# EAGLE library part MA16-1 (library STEMTera)
MA16-1 Gull Wing - MPH100IMP40M-G-V-SM
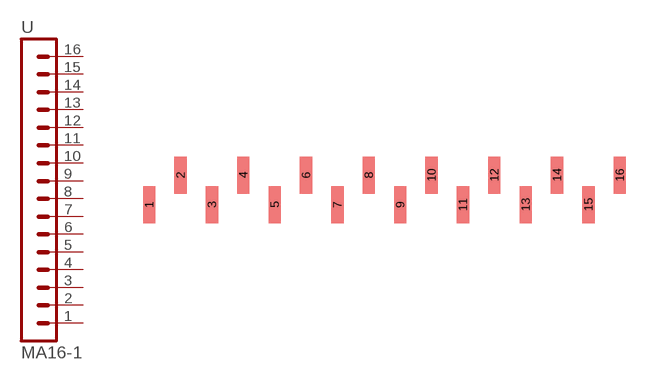
[diagram p15: symbol with the pads of MA16-GULLWING; footprint MA16-GULLWING]

Designator prefix -

## MA16-1  [MA16-GULLWING]
1  1  pas
2  2  pas
3  3  pas
4  4  pas
5  5  pas
6  6  pas
7  7  pas
8  8  pas
9  9  pas
10  10  pas
11  11  pas
12  12  pas
13  13  pas
14  14  pas
15  15  pas
16  16  pas

## Footprint MA16-GULLWING (pad centres in mm)
MPH100IMP40M-G-V-SM
smd 1 x 3: 1 0,-1.2; 2 2.54,1.2; 3 5.08,-1.2; 4 7.62,1.2; 5 10.16,-1.2; 6 12.7,1.2; 7 15.24,-1.2; 8 17.78,1.2; 9 20.32,-1.2; 10 22.86,1.2; 11 25.4,-1.2; 12 27.94,1.2; 13 30.48,-1.2; 14 33.02,1.2; 15 35.56,-1.2; 16 38.1,1.2